# Altium footprint library HCJ1206ZT0R00.PcbLib: 3 footprints
Each footprint in its own frame and in the unit in brackets; x right, y up, seen from the top. Pads: shape width x height; smd on the part's side, far side on the other; paste and mask are expansions set on the pad; w line width, h text height; cw(c..) or ccw(c..) is an arc to the next point about the centre after c.
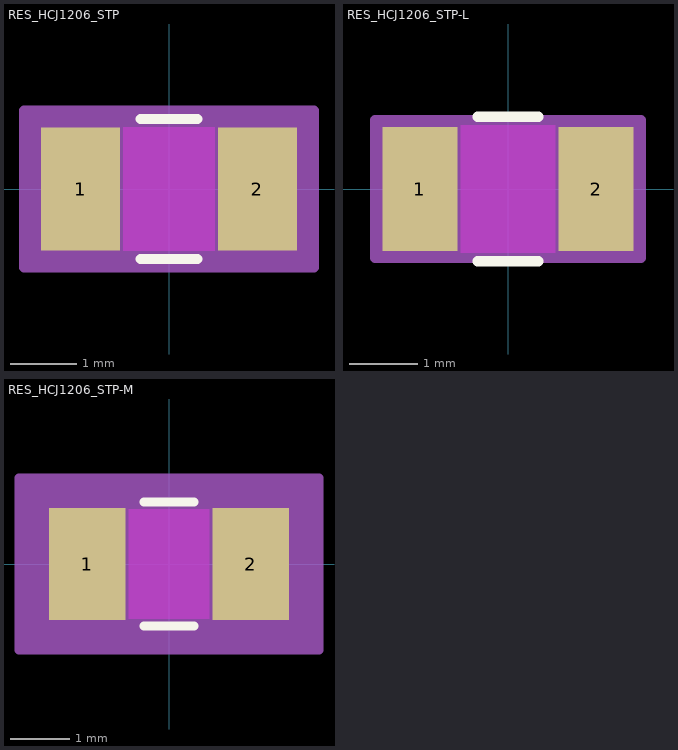
[diagram p0: the footprints below, top view; thin cyan lines are the x and y axes]

## RES_HCJ1206_STP [mil]
pads (2):
  rect 47x73 smd paste+0 mask+0: 1(-52.5,0) 2(52.5,0)
Top Layer keep-out:
  region: -27,-34.5 -27,34.5 27,34.5 27,-34.5
Top Overlay:
  lines w6: -16.89,-41.5 16.89,-41.5 ; -16.89,41.5 16.89,41.5
  text ".Designator" at -137.5,-25 h50
Keep-Out Layer:
  region: -27,-36.5 -27,36.5 27,36.5 27,-36.5
Mechanical 13:
  lines w1: -68,-36.5 -68,36.5 ; -68,-36.5 -29,-36.5 -29,36.5 -68,36.5 ; -68,-36.5 68,-36.5 ; -68,-36.5 -68,36.5 ; -68,36.5 68,36.5 ; 68,-36.5 29,-36.5 29,36.5 68,36.5 ; 68,-36.5 68,36.5 ; 68,-36.5 68,36.5
  text ".Designator" at -137.5,-25 h50
Mechanical 15:
  region: 86,-46.5 -86,-46.5 -86,46.5 86,46.5
  lines w6: -86,-46.5 -86,46.5 86,46.5 86,-46.5 -86,-46.5
3D body "RES_HCJ1206_STP.step": height 34.02, standoff 0, extent -67.99,-36.5 67.99,36.5

## RES_HCJ1206_STP-L [mil]
pads (2):
  rect 43x71 smd paste+0 mask+0: 1(-50.5,0) 2(50.5,0)
Top Layer keep-out:
  region: -27,-34.5 -27,34.5 27,34.5 27,-34.5
Top Overlay:
  lines w6: -17.35,-41.5 17.35,-41.5 ; -17.35,41.5 17.35,41.5
  text ".Designator" at -137.5,-25 h50
Keep-Out Layer:
  region: -27,-36.5 -27,36.5 27,36.5 27,-36.5
Mechanical 13:
  lines w1: -68,-36.5 -68,36.5 ; -68,-36.5 -29,-36.5 -29,36.5 -68,36.5 ; -68,-36.5 68,-36.5 ; -68,-36.5 -68,36.5 ; -68,36.5 68,36.5 ; 68,-36.5 29,-36.5 29,36.5 68,36.5 ; 68,-36.5 68,36.5 ; 68,-36.5 68,36.5
  text ".Designator" at -137.5,-25 h50
Mechanical 15:
  region: 76,-39.5 -76,-39.5 -76,39.5 76,39.5
  lines w6: -76,-39.5 -76,39.5 76,39.5 76,-39.5 -76,-39.5
3D body "RES_HCJ1206_STP.step": height 34.02, standoff 0, extent -67.99,-36.5 67.99,36.5

## RES_HCJ1206_STP-M [mil]
pads (2):
  rect 51x75 smd paste+0 mask+0: 1(-54.5,0) 2(54.5,0)
Top Layer keep-out:
  region: -27,-34.5 -27,34.5 27,34.5 27,-34.5
Top Overlay:
  lines w6: -16.53,-41.5 16.53,-41.5 ; -16.53,41.5 16.53,41.5
  text ".Designator" at -137.5,-25 h50
Keep-Out Layer:
  region: -27,-36.5 -27,36.5 27,36.5 27,-36.5
Mechanical 13:
  lines w1: -68,-36.5 -68,36.5 ; -68,-36.5 -29,-36.5 -29,36.5 -68,36.5 ; -68,-36.5 68,-36.5 ; -68,-36.5 -68,36.5 ; -68,36.5 68,36.5 ; 68,-36.5 29,-36.5 29,36.5 68,36.5 ; 68,-36.5 68,36.5 ; 68,-36.5 68,36.5
  text ".Designator" at -137.5,-25 h50
Mechanical 15:
  region: 100,-57.5 -100,-57.5 -100,57.5 100,57.5
  lines w6: -100,-57.5 -100,57.5 100,57.5 100,-57.5 -100,-57.5
3D body "RES_HCJ1206_STP.step": height 34.02, standoff 0, extent -67.99,-36.5 67.99,36.5